# Altium footprint library RUF-Dispositivos-Grales.PcbLib: 97 footprints (part 2 of 7)
Each footprint in its own frame and in the unit in brackets; x right, y up, seen from the top. Pads: shape width x height; smd on the part's side, far side on the other; paste and mask are expansions set on the pad; w line width, h text height; cw(c..) or ccw(c..) is an arc to the next point about the centre after c.
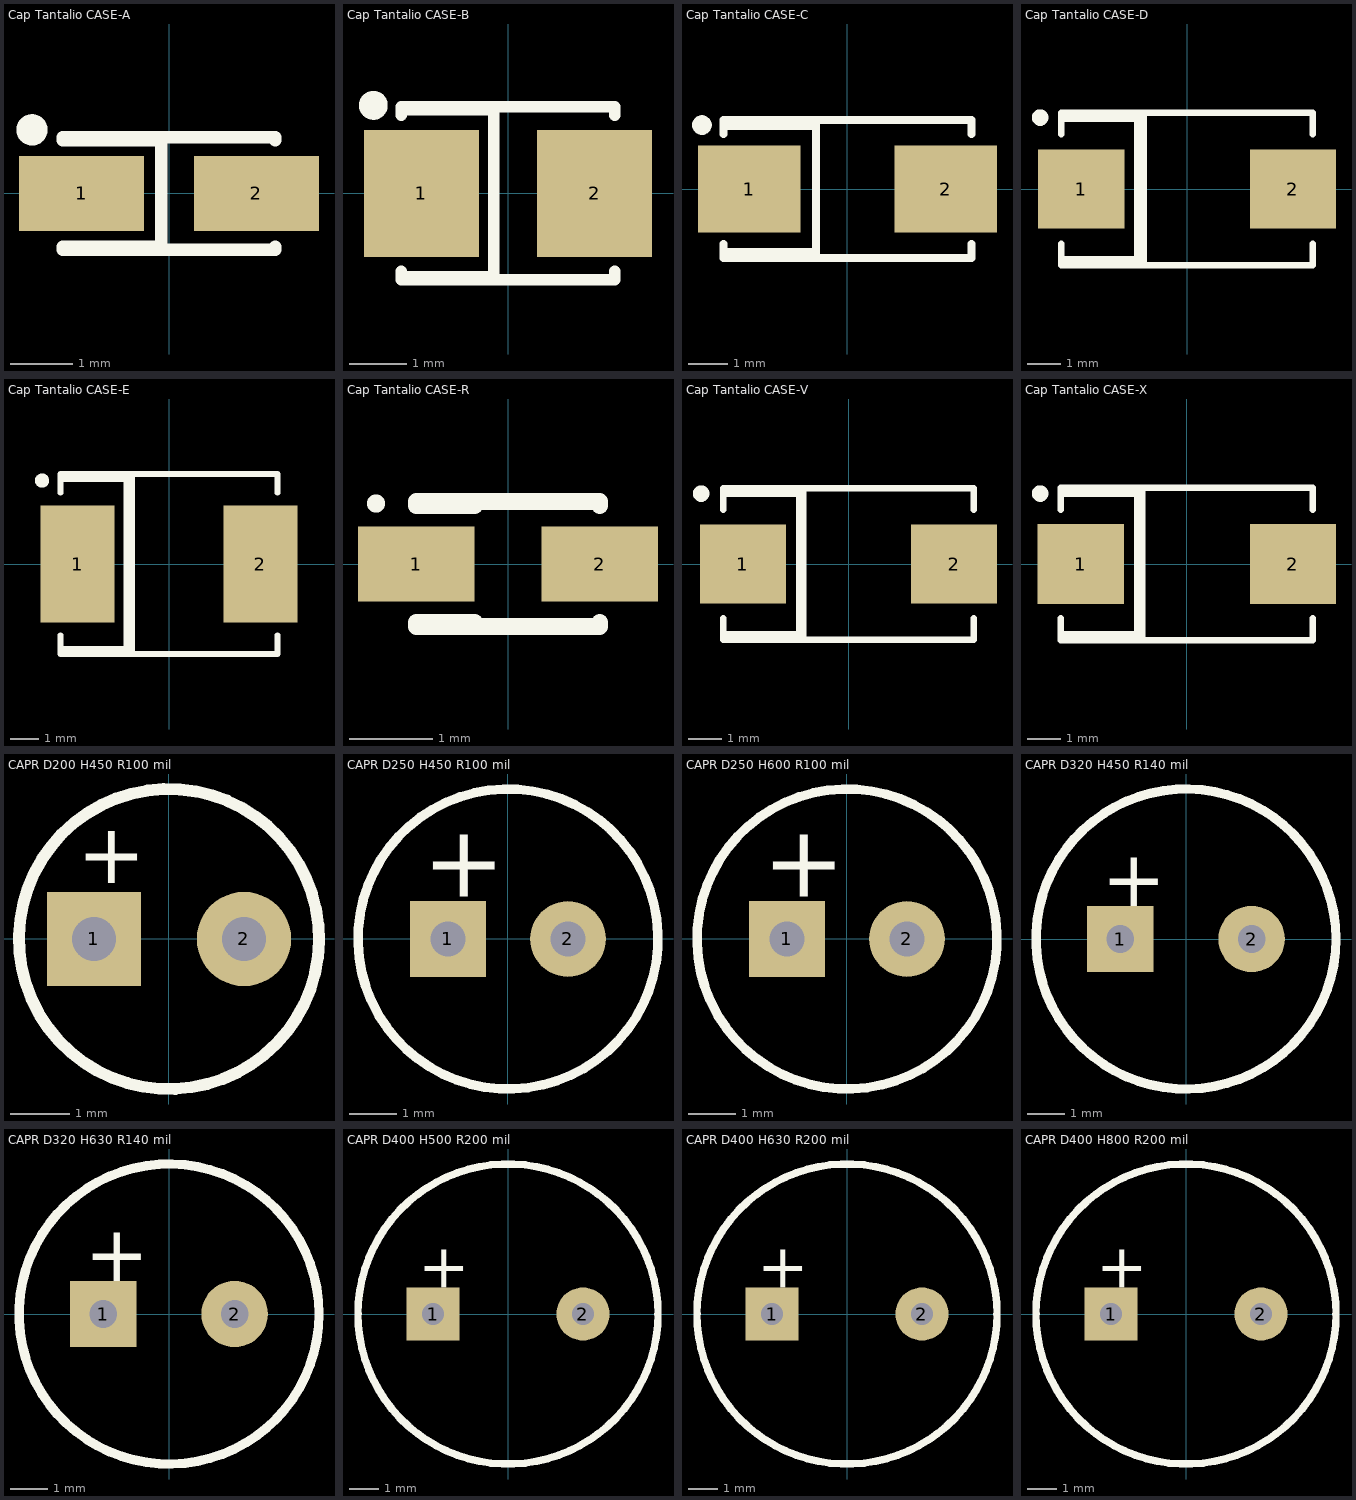
[diagram p1: the footprints below, top view; thin cyan lines are the x and y axes]

## Cap Tantalio CASE-A [mm] "Capacitor, SM Tantalum; Body 3.2 x 1.6 mm (LxW typ)"
height 1.8
pads (2):
  rect 2x1.2 smd: 1(-1.4,0) 2(1.4,0)
Top Overlay:
  circle w0.25: c-2.192,1.017 r0.125
  lines w0.2: -1.7,-0.9 1.7,-0.9 1.7,-0.85 ; -1.7,-0.85 -0.125,-0.85 -0.125,0.9 ; -1.7,0.85 -0.125,0.85 ; -1.7,0.9 1.7,0.9 1.7,0.85
3D body: height 1.6, standoff 0, extent -1.6,-0.8 1.6,0.8

## Cap Tantalio CASE-B [mm] "Capacitor, SM Tantalum; Body 3.5 x 2.8 mm (LxW typ)"
height 2.1
pads (2):
  rect 2x2.2 smd: 1(-1.5,0) 2(1.5,0)
Top Overlay:
  circle w0.25: c-2.335,1.524 r0.125
  lines w0.2: -1.85,-1.45 -0.25,-1.45 -0.25,1.45 -1.85,1.45 ; -1.85,-1.35 -1.85,-1.5 1.85,-1.5 1.85,-1.35 ; -1.85,1.35 -1.85,1.5 1.85,1.5 1.85,1.35
3D body: height 1.9, standoff 0, extent -1.75,-1.4 1.75,1.4

## Cap Tantalio CASE-C [mm] "Capacitor, SM Tantalum; Body 6.0 x 3.2 mm (LxW typ)"
height 2.8
pads (2):
  rect 2.6x2.2 smd: 1(-2.5,0) 2(2.5,0)
Top Overlay:
  circle w0.25: c-3.7,1.625 r0.125
  lines w0.2: -3.15,-1.753 -3.15,-1.397 ; -3.15,-1.75 3.15,-1.75 ; -3.15,-1.602 -0.906,-1.602 ; -3.15,1.397 -3.15,1.753 ; -3.15,1.602 -0.906,1.602 ; -3.15,1.75 3.15,1.75 3.15,1.397 ; -0.8,-1.75 -0.8,1.75 ; 3.15,-1.7 3.15,-1.75 ; 3.15,-1.397 3.15,-1.75
3D body: height 2.5, standoff 0, extent -3,-1.6 3,1.6

## Cap Tantalio CASE-D [mm] "Capacitor, SM Tantalum; Body 7.3 x 4.3 mm (LxW typ)"
height 3.1
pads (2):
  rect 2.6x2.4 smd: 1(-3.2,0) 2(3.2,0)
Top Overlay:
  circle w0.25: c-4.443,2.159 r0.125
  lines w0.2: -3.8,-2.125 -1.5,-2.125 ; -3.8,-1.651 -3.8,-2.3 3.8,-2.3 3.8,-1.651 ; -3.8,1.651 -3.8,2.3 3.8,2.3 3.8,1.651 ; -3.8,2.125 -1.5,2.125 ; -1.5,-2.3 -1.5,2.3
  lines w0.254: -1.346,-2.261 -1.346,2.261
3D body: height 2.8, standoff 0, extent -3.65,-2.15 3.65,2.15

## Cap Tantalio CASE-E [mm] "Capacitor, SM Tantalum; Body 7.3 x 6.0 mm (LxW typ)"
height 3.8
pads (2):
  rect 2.6x4.1 smd: 1(-3.2,0) 2(3.2,0)
Top Overlay:
  circle w0.25: c-4.443,2.921 r0.125
  lines w0.2: -3.8,-3.15 3.8,-3.15 3.8,-2.489 ; -3.8,-3.138 -3.8,-2.489 ; -3.8,2.489 -3.8,3.138 ; -3.8,3.15 3.8,3.15 3.8,2.489 ; -3.785,-2.972 -1.499,-2.972 ; -3.785,2.972 -1.499,2.972 ; -1.5,-3.15 -1.5,3.15
  lines w0.254: -1.321,-3.124 -1.321,3.124
3D body: height 3.6, standoff 0, extent -3.65,-3 3.65,3

## Cap Tantalio CASE-R [mm] "Capacitor, SM Tantalum; Body 2.0 x 1.3 mm (LxW typ)"
height 1.2
pads (2):
  rect 1.4x0.9 smd: 1(-1.1,0) 2(1.1,0)
Top Overlay:
  circle w0.2: c-1.584,0.725 r0.009
  lines w0.2: -0.4,-0.7 -1.1,-0.7 -1.1,-0.75 1.1,-0.75 1.1,-0.7 ; -0.4,0.7 -1.1,0.7 -1.1,0.75 1.1,0.75 1.1,0.7
3D body: height 1.2, standoff 0, extent -1,-0.65 1,0.65

## Cap Tantalio CASE-V [mm] "Capacitor, SM Tantalum; Body 7.3 x 4.3 mm (LxW typ)"
height 2
pads (2):
  rect 2.6x2.4 smd: 1(-3.2,0) 2(3.2,0)
Top Overlay:
  circle w0.25: c-4.468,2.134 r0.125
  lines w0.2: -3.8,-2.125 -1.5,-2.125 ; -3.8,-1.639 -3.8,-2.3 3.8,-2.3 3.8,-1.639 ; -3.8,1.639 -3.8,2.3 3.8,2.3 3.8,1.639 ; -3.8,2.125 -1.5,2.125 ; -1.5,-2.3 -1.5,2.3 ; -1.375,-2.3 -1.375,2.3
3D body: height 2, standoff 0, extent -3.675,-2.15 3.625,2.15

## Cap Tantalio CASE-X [mm] "Capacitor, SM Tantalum; Body 7.3 x 4.3 mm (LxW typ)"
height 4.3
pads (2):
  rect 2.6x2.4 smd: 1(-3.2,0) 2(3.2,0)
Top Overlay:
  circle w0.25: c-4.425,2.125 r0.125
  lines w0.2: -3.8,-2.125 -1.5,-2.125 ; -3.8,-1.639 -3.8,-2.3 3.8,-2.3 3.8,-1.639 ; -3.8,1.639 -3.8,2.3 3.8,2.3 3.8,1.639 ; -3.8,2.125 -1.5,2.125 ; -1.5,-2.3 -1.5,2.3 ; -1.35,-2.3 -1.35,2.3
3D body: height 4, standoff 0, extent -3.65,-2.15 3.65,2.15

## CAPR D200 H450 R100 mil [mm]
height 11.43
pads (2):
  rect 1.6x1.6 hole 0.75: 1(-1.27,0)
  round 1.6 hole 0.75: 2(1.27,0)
Top Overlay:
  lines w0.2: -2.205,-1.26 cw(c0,0) -2.189,-1.288
  text "+" at -1.549,0.94 h1.02
3D body: height 2.62, standoff -13.88, extent -2.75,-2.741 2.726,2.741

## CAPR D250 H450 R100 mil [mm]
height 11.43
pads (2):
  rect 1.6x1.6 hole 0.75: 1(-1.27,0)
  round 1.6 hole 0.75: 2(1.27,0)
Top Overlay:
  lines w0.2: -2.757,-1.575 cw(c0,0) -2.737,-1.61
  text "+" at -1.803,0.889 h1.52
3D body: height 2.49, standoff -13.01, extent -3.4,-3.389 3.371,3.39

## CAPR D250 H600 R100 mil [mm]
height 15.24
pads (2):
  rect 1.6x1.6 hole 0.75: 1(-1.27,0)
  round 1.6 hole 0.75: 2(1.27,0)
Top Overlay:
  lines w0.2: -2.757,-1.575 cw(c0,0) -2.737,-1.61
  text "+" at -1.778,0.889 h1.52
3D body: height 2.49, standoff -17.01, extent -3.4,-3.389 3.371,3.39

## CAPR D320 H450 R140 mil [mm]
height 11.43
pads (2):
  rect 1.8x1.8 hole 0.75: 1(-1.778,0)
  round 1.8 hole 0.75: 2(1.778,0)
Top Overlay:
  circle w0.254: c0,0 r4.066
  text "+" at -2.286,0.889 h1.52
3D body: height 13, standoff -3, extent -4.25,-4.237 4.213,4.237

## CAPR D320 H630 R140 mil [mm]
height 16.002
pads (2):
  rect 1.8x1.8 hole 0.75: 1(-1.778,0)
  round 1.8 hole 0.75: 2(1.778,0)
Top Overlay:
  circle w0.254: c0,0 r4.066
  text "+" at -2.286,0.889 h1.52
3D body: height 17.5, standoff -3, extent -4.25,-4.237 4.213,4.237

## CAPR D400 H500 R200 mil [mm]
height 12.7
pads (2):
  rect 1.8x1.8 hole 0.75: 1(-2.54,0)
  round 1.8 hole 0.75: 2(2.54,0)
Top Overlay:
  circle w0.254: c0,0 r5.08
  text "+" at -3.048,0.889 h1.52
3D body: height 14, standoff -3, extent -5.25,-5.234 5.205,5.234

## CAPR D400 H630 R200 mil [mm]
height 16.002
pads (2):
  rect 1.8x1.8 hole 0.75: 1(-2.54,0)
  round 1.8 hole 0.75: 2(2.54,0)
Top Overlay:
  circle w0.254: c0,0 r5.08
  text "+" at -3.048,0.889 h1.52
3D body: height 17.5, standoff -3, extent -5.25,-5.234 5.205,5.234

## CAPR D400 H800 R200 mil [mm]
height 20.32
pads (2):
  rect 1.8x1.8 hole 0.75: 1(-2.54,0)
  round 1.8 hole 0.75: 2(2.54,0)
Top Overlay:
  circle w0.254: c0,0 r5.08
  text "+" at -3.048,0.889 h1.52
3D body: height 22, standoff -3, extent -5.25,-5.234 5.205,5.234